# EAGLE library part 2.4"TFT (library Displays)
4.3 inch TFT LCD Display with touchskreen. Based on ILI9325 and ADS7843 compatible touch screen controller. ILI9325 Datasheet <https://www.adafruit.com/datasheets/ILI9325.pdf> ADS7843 Datasheet <http://www.ti.com/lit/ds/symlink/ads7843.pdf>
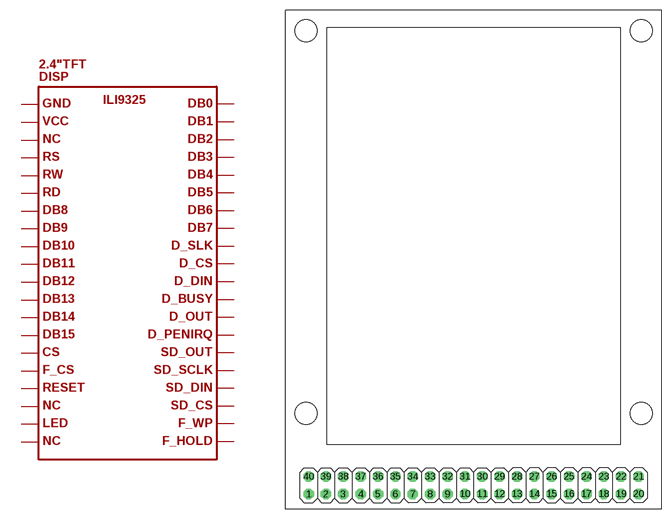
[diagram p5: symbol with the pads of 2X20; footprint 2X20]

Designator prefix DISP

## 2.4"TFT  [2X20]
1  P$1
2  P$2
3  P$3
4  P$4
5  P$5
6  P$6
7  P$7
8  P$8
9  P$9
10  P$10
11  P$11
12  P$12
13  P$13
14  P$14
15  P$15
16  P$16
17  P$17
18  P$18
19  P$19
20  P$20
21  P$21
22  P$22
23  P$23
24  P$24
25  P$25
26  P$26
27  P$27
28  P$28
29  P$29
30  P$30
31  P$31
32  P$32
33  P$33
34  P$34
35  P$35
36  P$36
37  P$37
38  P$38
39  P$39
40  P$40

## Footprint 2X20 (pad centres in mm)
PIN HEADER
drill 1.016 octagon: 1 -24.13,-1.27; 2 -21.59,-1.27; 3 -19.05,-1.27; 4 -16.51,-1.27; 5 -13.97,-1.27; 6 -11.43,-1.27; 7 -8.89,-1.27; 8 -6.35,-1.27; 9 -3.81,-1.27; 10 -1.27,-1.27; 11 1.27,-1.27; 12 3.81,-1.27; 13 6.35,-1.27; 14 8.89,-1.27; 15 11.43,-1.27; 16 13.97,-1.27; 17 16.51,-1.27; 18 19.05,-1.27; 19 21.59,-1.27; 20 24.13,-1.27; 21 24.13,1.27; 22 21.59,1.27; 23 19.05,1.27; 24 16.51,1.27; 25 13.97,1.27; 26 11.43,1.27; 27 8.89,1.27; 28 6.35,1.27; 29 3.81,1.27; 30 1.27,1.27; 31 -1.27,1.27; 32 -3.81,1.27; 33 -6.35,1.27; 34 -8.89,1.27; 35 -11.43,1.27; 36 -13.97,1.27; 37 -16.51,1.27; 38 -19.05,1.27; 39 -21.59,1.27; 40 -24.13,1.27
hole 3.2 at 24.5,10.5
hole 3.2 at -24.5,10.5
hole 3.2 at -24.5,66.5
hole 3.2 at 24.5,66.5